# Altium schematic symbol library 1053141206.SchLib: 2 symbols
Pins are listed as number, name and electrical type; pins without a type are passive.

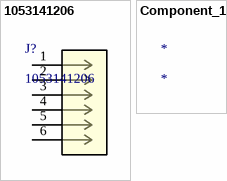
[diagram p0: symbols 1053141206 to Component_1]

## 1053141206
designator J?
No Description Available; Mfr_Name: Molex Connector Corporation; Copyright: Copyright (C) 2022 Ultra Librarian. All rights reserved.; Manufacturer_Part_Number: 1053141206; RefDes: RefDes; Type: DEV
footprint CON_1053141206
pins: 1, 2, 3, 4, 5, 6

## Component_1
designator *